# Altium schematic symbol library IND,2.2uH,1.8A,Multilayer,0806.Schlib: 1 symbol
Pins are listed as number, name and electrical type; pins without a type are passive.

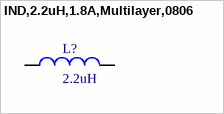
[diagram p0: symbol IND,2.2uH,1.8A,Multilayer,0806]

## IND,2.2uH,1.8A,Multilayer,0806
designator L?, comment 2.2uH
2.2 µH Unshielded Thin Film Inductor 1.8 A 139mOhm Max 0806 (2016 Metric) -
pins: 1, 2